# Altium integrated library MCUBOARD.IntLib: 41 symbols
Pins are listed as number, name and electrical type; pins without a type are passive.

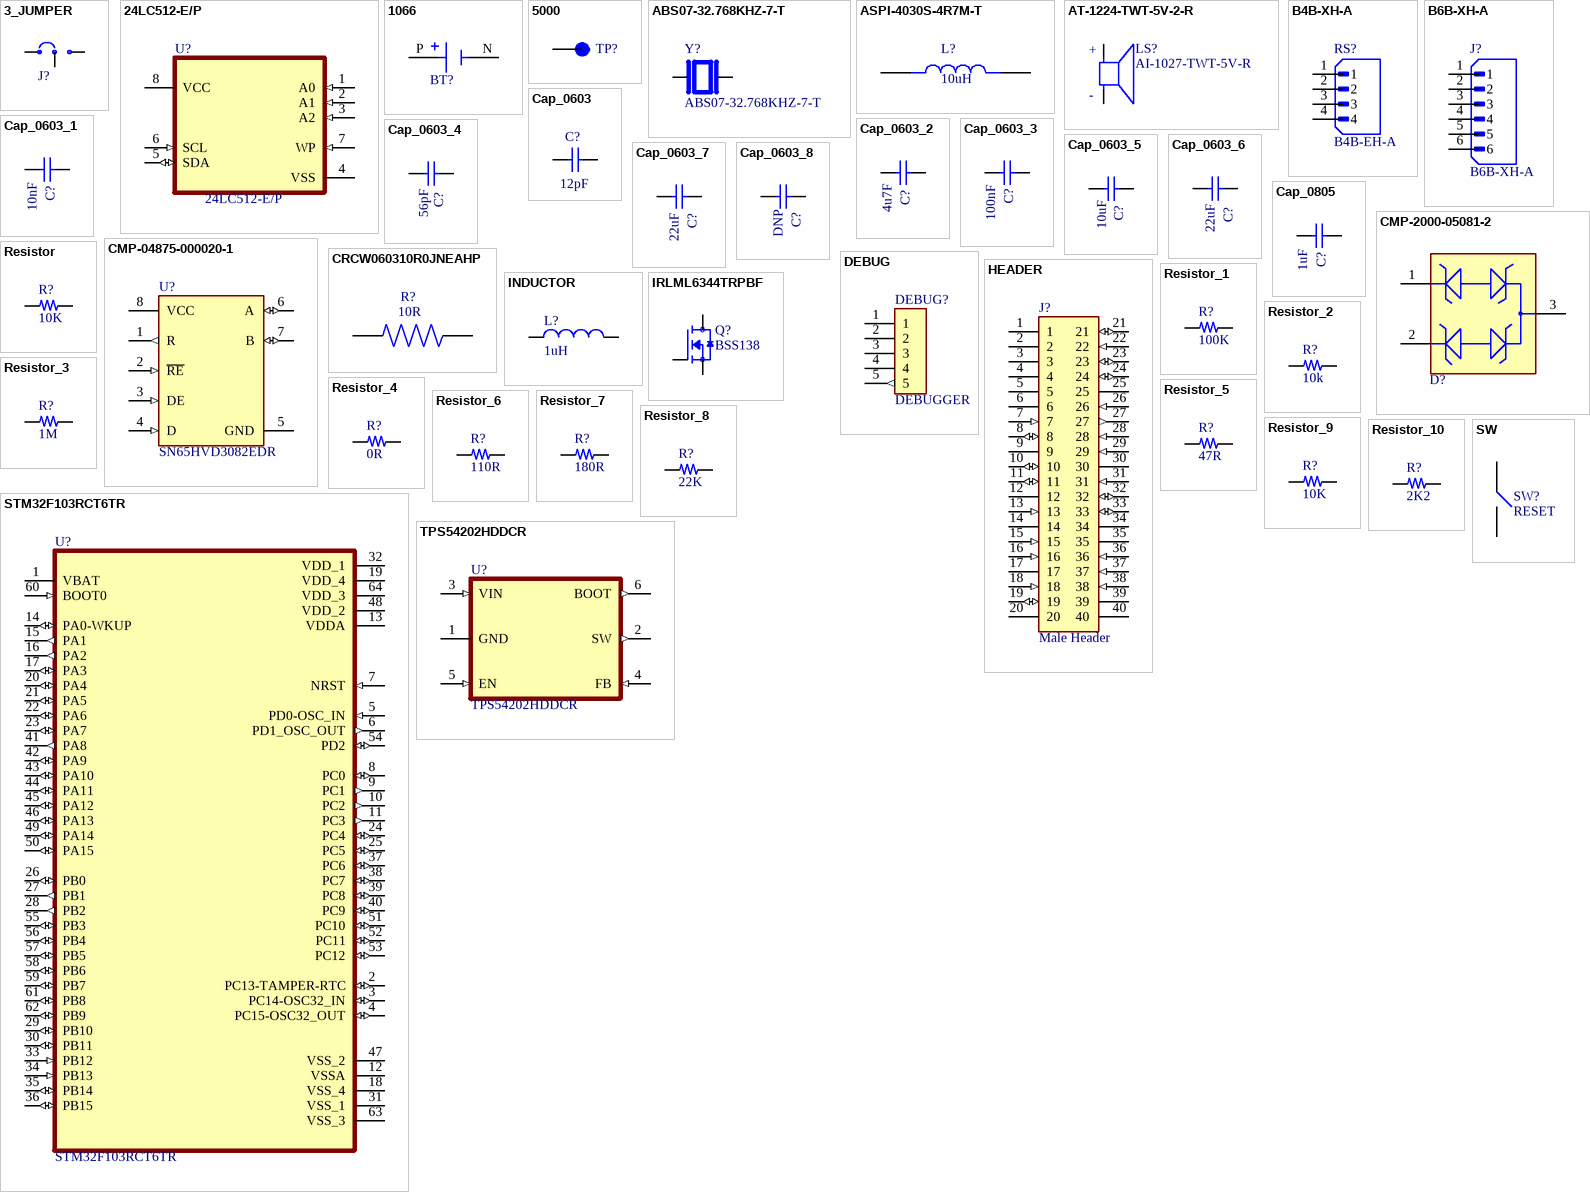
[diagram p0: symbols 3_JUMPER to TPS54202HDDCR]

## 3_JUMPER
designator J?, comment BOOT JUMPER  (value not drawn)
Connector Header Through Hole 3 position 0.100" (2.54mm); Manufacturer: Würth Elektronik; Manufacturer Part Number: 61300311121
footprint WURTH_61300311121
pins: 1, 2, 3

## 24LC512-E/P
designator U?
IC, Socket, 2p54mm Pitch, 7p62mm Width, DIP8; Manufacturer: TE CONNECTIVITY; Manufacturer Part Number: 1-2199298-2; SnapEDA_Link: https://www.snapeda.com/parts/24LC512-E/P/Microchip+Technology/view-part/?ref=snap; Package: DIP-8 Microchip; Value: *; Check_prices: https://www.snapeda.com/parts/24LC512-E/P/Microchip+Technology/view-part/?ref=eda
footprint DIP254P762X432-8
footprint TE_1-2199298-2
pins: 1 A0 (in), 2 A1 (in), 3 A2 (in), 4 VSS, 5 SDA (io), 6 SCL (in), 7 WP (in), 8 VCC (power)

## 1066
designator BT?  (value not drawn)
CR1220 Coin Cell Battery Holder SMD; Manufacturer: KLS Electronics; Manufacturer Part Number: KLS5-CR1220-02
footprint BAT_BH401
footprint BT1 (CR1220 CELL HOLDER)
pins: N NEG, P POS

## 5000
designator TP?  (value not drawn)
Test Point Miniature THM H .300 Nylon 46 Insulated Red PhosBronze/Silver | Keystone Electronics 5000; SnapEDA_Link: https://www.snapeda.com/parts/5000/Keystone/view-part/?ref=snap; Package: Test Point Keystone Electronics; Value: *; MF: Keystone Electronics; MP: 5000; Check_prices: https://www.snapeda.com/parts/5000/Keystone/view-part/?ref=eda
footprint KEYSTONE_5000
pins: TP

## ABS07-32.768KHZ-7-T
designator Y?
32.768 kHz Â±20ppm Crystal 7pF 70 kOhms 2-SMD, No Lead; Manufacturer: Abracon; Value: 32.768 kHz; Manufacturer Part Number: ABS07-32.768KHZ-7-T; Package: SMD-2 Abracon LLC
footprint XTAL_ABS07-32.768KHZ-7-T
pins: 1, 2

## ASPI-4030S-4R7M-T
designator L?, comment 10uH
SRR1280-100M-BOURNS-SRR1280-100M-INDUCTOR, SHIELDED, 10UH, 6.3A, SMD; Manufacturer: BOURNS Inc.; Current Rating (Amps): 6 A; Tolerance: ±20%; DC Resistance (DCR): 19.5mOhm; Manufacturer Part Number: SRR1280-100M; Type: SMD; Value: 10uH
footprint IND_ASPI-4030S-4R7M-T
footprint FP-DEM10050C-MFG
pins: 1, 2

## AT-1224-TWT-5V-2-R
designator LS?, comment AI-1027-TWT-5V-R
Transducer, Audio Indicator, 2.7kHz, 3 VDC to 7 VDC, Continuous, 80 dBA, 30mA, Through Hole; Manufacturer: PUI AUDIO; Package: None; Price: None; Value: *; Manfacturer Part Number: AI-1027-TWT-5V-R; Availability: Unavailable
footprint XDCR_AT-1224-TWT-5V-2-R
pins: N, P
text: +; -

## B4B-XH-A
designator RS?, comment B4B-EH-A
Connector Header Through Hole 4 position 0.098" (2.50mm); Manufacturer: JST Sales America Inc.; Manufacturer Part Number: B4B-EH-A
footprint JST_B4B-EH-A
pins: 1, 2, 3, 4

## B6B-XH-A
designator J?
DNP; SnapEDA_Link: https://www.snapeda.com/parts/B5B-XH-A/JST+Sales+America+Inc./view-part/?ref=snap; Package: None; Value: *; Manufacturer Name: *; Manufacturer Part Number: *; Check_prices: https://www.snapeda.com/parts/B5B-XH-A/JST+Sales+America+Inc./view-part/?ref=eda
footprint TE_640456-6
pins: 1, 2, 3, 4, 5, 6

## Cap_0603
designator C?, comment 12pF
SMD Multilayer Ceramic Capacitor, 12 pF, 50 V, 0402 [1005 Metric], ± 5%, C0G / NP0; Manufacturer Part Number: CL05C120JB5NNNC; Manufacturer: SAMSUNG ELECTRO-MECHANICS; Tolerance: ± 10%; Voltage Rating: 50 V; Type: SMD; Package: 0402; Value: 12pF
footprint CAPC2012X88N
footprint CAPC1005X55N
pins: 1, 2

## Cap_0603_1
designator C?, comment 10nF
10000 pF ±10% 10V Ceramic Capacitor X7R 0201 (0603 Metric); Manufacturer Part Number: GRM033R71A103KA01J; Manufacturer: Murata Electronics; Type: SMD; Package: 0603; Value: 10nF; Tolerance: ±10%; Temperature Coefficient: X7R; Voltage Rating: 10V
footprint CAPC1608X90N
pins: 1, 2

## Cap_0603_2
designator C?, comment 4u7F
4.7 µF ±10% 16V Ceramic Capacitor X7R 0603 (1608 Metric); Manufacturer Part Number: CL10A475KO8NNWC; Manufacturer: SAMSUNG; Type: SMD; Value: 4u7H; Package: 0603; Tolerance: ±10%; Temperature Coefficient: X7R; Voltage Rating: 16V
footprint CAPC1608X90N
pins: 1, 2

## Cap_0603_3
designator C?, comment 100nF
0.1 µF ±10% 16V Ceramic Capacitor X7R 0603 (1608 Metric); Manufacturer Part Number: CC0603KRX7R7BB104; Manufacturer: YAGEO; Type: SMD; Package: 0805; Value: 100nF; Tolerance: ± 10%; Temperature Coefficient: X7R; Voltage Rating: 16 V
footprint RES_ERJU02F5102X
pins: 1, 2

## Cap_0603_4
designator C?, comment 56pF
SMD Multilayer Ceramic Capacitor, 56 pF, 50 V, 0402 [1005 Metric], ± 5%, C0G / NP0; Manufacturer Part Number: CC0402JRNPO9BN560; Manufacturer: YAGEO; Voltage Rating: 50V; Type: SMD; Package: 0402; Value: 56pF; Tolerance: ± 5%; Temperature Coefficient: C0G / NP0
footprint CAP_0402
pins: 1, 2

## Cap_0603_5
designator C?, comment 10uF
CAP CER 10UF 50V X7R 1210; Manufacturer Part Number: CL32B106KBJNNNE; Manufacturer: Samsung Electro-Mechanics; Type: SMD; Tolerance: ±10%; Voltage Rating: 10V; Package: 0603; Value: 10uF; Temperature Coefficient: X7R
footprint CAPC3225X270N
pins: 1, 2

## Cap_0603_6
designator C?, comment 22uF
22 µF ±10% 16V Ceramic Capacitor X5R 0805 (2012 Metric); Manufacturer Part Number: CL21A226KOQNNNE; Manufacturer: Samsung Electro-Mechanics; Type: SMD; Package: 0805; Value: 22uF; Tolerance: ±10%; Temperature Coefficient: X5R; Voltage Rating: 16V
footprint CAPC2012X88N
pins: 1, 2

## Cap_0603_7
designator C?, comment 22uF
DNP; Type: SMD; Tolerance: ±10%; Temperature Coefficient: X5R; Voltage Rating: 16V; Manufacturer Part Number: *; Manufacturer: *; Package: 0805; Value: 22uF
footprint CAPC2012X88N
pins: 1, 2

## Cap_0603_8
designator C?, comment DNP
Type: SMD; Value: 22uF; Tolerance: ±10%; Temperature Coefficient: X5R; Voltage Rating: 16V; Manufacturer Part Number: *; Manufacturer: *; Package: 0805
footprint CAPC2012X88N
pins: 1, 2

## Cap_0805
designator C?, comment 1uF
1 µF ±10% 16V Ceramic Capacitor X7R 0603 (1608 Metric); Manufacturer Part Number: C0603C105K4RACTU; Manufacturer: KEMET; Type: SMD; Package: 0603; Value: 1uF; Tolerance: ± 10%; Temperature Coefficient: X7R; Voltage Rating: 16 V
footprint CAPC1608X90N
pins: 1, 2

## CMP-2000-05081-2
designator D?, comment CDSOT23-SM712  (value not drawn)
TVS DIODE 7V/12V 14V/26V SOT23-3; Manufacturer: Bourns Inc.; Peak Pulse Current: 17A; Standoff Height: 0.05mm; Breakdown Voltage: 7.5V; Direction: Bidirectional; Clamping Voltage: 26V; Value: 75pF; Number Of Channels: 2; Reverse Standoff Voltage: 12V; Peak Pulse Power: 400W; Temperature Range Low: -55°C; Mouser Description: Transient Voltage Suppressor, TVS, CDSOT23 Series, Unidirectional, 12 V, SOT-23, 3, 13.3 V; Device Class L3: unset; Package: SOT23; Height: 1.17mm; RoHS: TRUE; Octopart: https://octopart.com/cdsot23-sm712-bourns-7576327; Category: Diode; Ipc Land Pattern Name: SOT95P229X103-3; ComponentLink2URL: https://www.bourns.com/docs/Product-Datasheets/CDSOT23-SM712.pdf; Temperature Range High: +150°C; ComponentLink2Description: Datasheet; Digikey Description: TVS DIODE 7V/12V 14V/26V SOT23-3; Manufacturer Part Number: CDSOT23-SM712; Temperature: -55°C to +150°C; Device Class L2: TVS Diodes; Lead Free: Yes; Device Class L1: Circuit Protection; Automotive: No; Capacitance: 75pF
footprint FP-SOT23-IPC_A
pins: 1, 2, 3

## CMP-04875-000020-1
designator U?, comment SN65HVD3082EDR
IC TRANSCEIVER HALF 1/1 8SOIC; Manufacturer: Texas Instruments; Data Rate: 0.2Mbits/s; Standoff Height: 0.11mm; Max Junction Temp: +130°C; Number Of Transmitters: 1; Nominal Supply Current: 300-425uA; Min Supply Voltage: 4.5V; Simplex Duplex: Half Duplex; Max Supply Voltage: 5.5V; Interface: RS-485,RS-422; Lead Free: Yes; Temperature Range High: +85°C; Ambient Temperature Range High: +105°C; Octopart: https://octopart.com/sn65hvd3082edr-texas+instruments-712058; Automotive: No; Ambient Temperature Range Low: -40°C; RoHS: TRUE; Device Class L2: Interface ICs; Mouser Description: RS-485 Interface IC Low-Power RS-485 Transceiver; Package: D0008A; Digikey Description: IC TRANSCEIVER HALF 1/1 8SOIC; Device Class L1: Integrated Circuits (ICs); Height: 1.75mm; ComponentLink2Description: Datasheet; Category: IC; Temperature Range Low: -40°C; Number Of Receivers: 1; Device Class L3: RS-232 / RS-422 / RS-485 Interface ICs; Ipc Land Pattern Name: SOIC127P600X175-8; ComponentLink2URL: http://www.ti.com/lit/ds/symlink/sn65hvd3082e.pdf; Temperature: -40°C to +85°C; Manufacturer Part Number: SN65HVD3082EDR
footprint FP-D0008A-IPC_A
pins: 1 R (out), 2 ~{RE} (in), 3 DE (in), 4 D (in), 5 GND (power), 6 A (io), 7 B (io), 8 VCC (power)

## CRCW060310R0JNEAHP
designator R?, comment 10R
RC0402FR-0710RL-YAGEO-Res Thick Film 0402 10 Ohm 1% 0.063W(1/16W) ±200ppm/°C Pad SMD T/R; Manufacturer: Yageo; Power Rating: 100mW; Type: SMD; Package: 0402; Value: 10R; Manufacturer Part Number: RC0402FR-0710RL; Tolerance: ±1%; Temperature Coefficient: ±200ppm/°C
footprint RES_ERJU02F5102X
pins: 1, 2

## DEBUG
designator DEBUG?, comment DEBUGGER
PCB Receptacle, Board-to-Board, 2.54 mm, 1 Rows, 5 Contacts, Through Hole Mount, WR-PHD; Manufacturer: WURTH ELEKTRONIK; Manufacturer Part Number: 61300511821; Geometry.Height: 2.881mm; Mouser Part Number: 737-PH1RB-02-UA; Mouser Price/Stock: https://www.mouser.co.uk/ProductDetail/Adam-Tech/PH1RB-02-UA?qs=HoCaDK9Nz5fILNAxadVeKQ%3D%3D; Datasheet Link: https://app.adam-tech.com/products/download/data_sheet/201281/ph1rb-xx-ua-data-sheet.pdf
footprint CONN5_1LFBN-RC_SUL
pins: 1, 2, 3, 4, 5 (out)

## HEADER
designator J?, comment Male Header
10129378 Amphenol -2×20 Pin 2.54mm Pin Header V/T Type; Manufacturer Part Number: 10129371; Manufacturer: Amphenol
footprint FP-N2540-6002RB-MFG
footprint SMTC-TSW-120-08-X-D-RA (.025 SQ Post Terminal Strip Assembly, 2x20 Pins, Right Angle, 2.54mm Pitch, Male)
footprint 61304021121
pins: 1, 2, 3, 4, 5, 6, 7 (in), 8 (io), 9 (power), 10 (io), 11 (io), 12, 13 (in), 14 (power), 15 (in), 16 (in), 17 (power), 18 (in), 19 (io), 20 (power), 21 (io), 22 (in), 23 (io), 24 (io), 25 (power), 26 (in), 27 (out), 28 (in), 29 (in), 30 (power), 31 (in), 32 (io), 33 (io), 34 (power), 35, 36 (in), 37 (in), 38 (in), 39 (power), 40

## INDUCTOR
designator L?, comment 1uH
POWER INDUCTOR, SMD, 1UH, 0.8A; Manufacturer Part Number: LSBHB1608KKT1R0M; Manufacturer: TAIYO YUDEN; Tolerance: ±20%; DC Resistance (DCR): 300m ohm; Rated Current: 700mA; Package: 0603; Type: SMD; Value: 1uH
footprint INDC2012X145N
footprint CAPC1608X90N
pins: 1, 2

## IRLML6344TRPBF
designator Q?, comment BSS138
MVGSF1N02LT1G-ONSEMI-Power MOSFET, N Channel, 20 V, 750 mA, 0.075 ohm, SOT-23, Surface Mount; Manufacturer: onsemi; Rds ON: 90mOhm; Id: 750mA; Manufacturer Part Number: BSS138
footprint TRANS_IRLML6344TRPBF
pins: 1 G, 2 S, 3 D

## Resistor
designator R?, comment 10K
10 kOhms ±1% 0.063W, 1/16W Chip Resistor 0402 (1005 Metric) Moisture Resistant Thick Film; Manufacturer: YAGEO; Manufacturer Part Number: RC0402FR-0710KL; Temperature Coefficient: ±100ppm/°C; Power Rating: 0.063W(1/16W); Value: 10K; Tolerance: ±1 %; Type: SMD; Package: 0402
footprint RES_ERJU02F5102X
pins: 1, 2

## Resistor_1
designator R?, comment 100K
100 kOhms ±1% 0.063W, 1/16W Chip Resistor 0402 (1005 Metric) Moisture Resistant Thick Film; Manufacturer: YAGEO; Manufacturer Part Number: RC0402FR-07100KL; Temperature Coefficient: ±100ppm/°C; Value: 100K; Tolerance: ±1 %; Type: SMD; Package: 0402; Power Rating: 0.063W, 1/16W
footprint RES_ERJU02F5102X
pins: 1, 2

## Resistor_2
designator R?, comment 10k
10 kOhms ±1% 0.063W, 1/16W Chip Resistor 0402 (1005 Metric) Moisture Resistant Thick Film; Manufacturer: YAGEO; Manufacturer Part Number: RC0402FR-0710KL; Value: 100K; Temperature Coefficient: ±100ppm/°C; Tolerance: ±1 %; Type: SMD; Package: 0402; Power Rating: 0.063W, 1/16W
footprint RES_ERJU02F5102X
pins: 1, 2

## Resistor_3
designator R?, comment 1M
RC0402FR-071ML-YAGEO-Res Thick Film 0402 1M Ohm 1% 0.063W(1/16W) ±100ppm/°C Pad SMD T/R; Manufacturer: YAGEO; Power Rating: 0.063W, 1/16W; Value: 1M; Manufacturer Part Number: RC0402FR-071ML; Tolerance: ±1 %; Temperature Coefficient: ±100ppm/°C; Type: SMD; Package: 0402
footprint RES_ERJU02F5102X
pins: 1, 2

## Resistor_4
designator R?, comment 0R
0 Ohms ±1% 0.063W, 1/16W Chip Resistor 0402 (1005 Metric) Moisture Resistant Thick Film; Manufacturer: YAGEO; Manufacturer Part Number: RC0402FR-070RL; Temperature Coefficient: ±100ppm/℃; Power Rating: 62.5mW; Value: 0R; Tolerance: ±1 %; Type: SMD; Package: 0402
footprint RES_ERJU02F5102X
pins: 1, 2

## Resistor_5
designator R?, comment 47R
RC0402FR-0747RL-YAGEO-Res Thick Film 0402 47 Ohm 1% 0.063W(1/16W) ±100ppm/°C Pad SMD T/R; Manufacturer: YAGEO; Power Rating: 0.063W, 1/16W; Value: 47R; Manufacturer Part Number: RC0402FR-0747RL; Tolerance: ±1 %; Temperature Coefficient: ±100ppm/°C; Type: SMD; Package: 0402
footprint RES_ERJU02F5102X
pins: 1, 2

## Resistor_6
designator R?, comment 110R
RC0603FR-07110RL-YAGEO-100mW Thick Film Resistors 75V ±100ppm/℃ ±1% 110Ω 0603 Chip Resistor – Surface Mount ROHS; Manufacturer: YAGEO; Power Rating: 100mW; Value: 110R; Manufacturer Part Number: RC0603FR-07110RL; Tolerance: ±1 %; Temperature Coefficient: ±100ppm/℃; Type: SMD; Package: 0603
footprint RESC1608X55N
pins: 1, 2

## Resistor_7
designator R?, comment 180R
RC0402FR-07180RL-Yageo-SMD Chip Resistor, 180 ohm, ± 1%, 62.5 mW, 0402 [1005 Metric], Thick Film, General Purpose; Manufacturer: YAGEO; Temperature Coefficient: ±100ppm/°C; Power Rating: 0.063W(1/16W); Value: 180R; Manufacturer Part Number: RC0402FR-07180RL; Tolerance: ±1 %; Type: SMD; Package: 0402
footprint RES_ERJU02F5102X
pins: 1, 2

## Resistor_8
designator R?, comment 22K
22 kOhms ±1% 0.063W, 1/16W Chip Resistor 0402 (1005 Metric) Moisture Resistant Thick Film; Manufacturer: YAGEO; Manufacturer Part Number: RC0402FR-0722KL; Temperature Coefficient: ±100ppm/°C; Power Rating: 0.063W(1/16W); Value: 22K; Tolerance: ±1 %; Type: SMD; Package: 0402
footprint RES_ERJU02F5102X
pins: 1, 2

## Resistor_9
designator R?, comment 10K
10 kOhms ±1% 0.063W, 1/16W Chip Resistor 0402 (1005 Metric) Moisture Resistant Thick Film; Manufacturer: YAGEO; Manufacturer Part Number: RC0402FR-0710KL; Value: 100R; Temperature Coefficient: ±100ppm/℃; Power Rating: 62.5mW; Tolerance: ±1 %; Type: SMD; Package: 0402
footprint RES_ERJU02F5102X
pins: 1, 2

## Resistor_10
designator R?, comment 2K2
RC0402FR-072K2L, Yageo, SMD Chip Resistor, 2.2 kohm, ± 1%, 0402 [1005 Metric], Thick Film; Temperature Coefficient: ±100ppm/°C; Power Rating: 0.063W(1/16W); Value: 2K2; Manufacturer: YAGEO; Manufacturer Part Number: RC0402FR-072K2L; Tolerance: ±1 %; Type: SMD; Package: 0402
footprint RES_ERJU02F5102X
pins: 1, 2

## STM32F103RCT6TR
designator U?
ARM Cortex-M3 STM32F1 Microcontroller IC 32-Bit Single-Core 72MHz 256KB (256K x 8) FLASH 64-LQFP (10x10); Manufacturer: STMicroelectronics; Package: LQFP-64 STMicroelectronics; Manufacturer Part Number: STM32F103RCT6TR
footprint QFP50P1200X1200X160-64N
pins: 1 VBAT (power), 2 PC13-TAMPER-RTC (io), 3 PC14-OSC32_IN (io), 4 PC15-OSC32_OUT (io), 5 PD0-OSC_IN (in), 6 PD1_OSC_OUT (out), 7 NRST (in), 8 PC0 (io), 9 PC1 (out), 10 PC2 (out), 11 PC3 (out), 12 VSSA (power), 13 VDDA (power), 14 PA0-WKUP (io), 15 PA1 (out), 16 PA2 (out), 17 PA3 (io), 18 VSS_4 (power), 19 VDD_4 (power), 20 PA4 (io), 21 PA5 (io), 22 PA6 (io), 23 PA7 (io), 24 PC4 (io), 25 PC5 (io), 26 PB0 (io), 27 PB1 (out), 28 PB2 (out), 29 PB10 (io), 30 PB11 (io), 31 VSS_1 (power), 32 VDD_1 (power), 33 PB12 (in), 34 PB13 (in), 35 PB14 (io), 36 PB15 (io), 37 PC6 (io), 38 PC7 (io), 39 PC8 (io), 40 PC9 (io), 41 PA8 (out), 42 PA9 (io), 43 PA10 (io), 44 PA11 (io), 45 PA12 (io), 46 PA13 (io), 47 VSS_2 (power), 48 VDD_2 (power), 49 PA14 (io), 50 PA15 (io), 51 PC10 (io), 52 PC11 (io), 53 PC12 (io), 54 PD2 (io), 55 PB3 (io), 56 PB4 (io), 57 PB5 (io), 58 PB6 (io), 59 PB7 (io), 60 BOOT0 (in), 61 PB8 (io), 62 PB9 (io), 63 VSS_3 (power), 64 VDD_3 (power)

## SW
designator SW?, comment RESET
Tact Switch-TSB008A2518B-2 Pin 6 x 3.5mm; Manufacturer: BZCN; Manufacturer Part Number: TSB008A2518B
footprint 434121043836
pins: 1, 2

## TPS54202HDDCR
designator U?
4.5V to 28V Input, 2A Output, Synchronous Step-Down Voltage Converter; Manufacturer: Texas Instruments; Package: SOT-23-THN-6 Texas Instruments; Manufacturer Part Number: TPS54202HDDCR
footprint SOT95P280X110-6N
pins: 1 GND (power), 2 SW (out), 3 VIN (in), 4 FB (in), 5 EN (in), 6 BOOT (out)

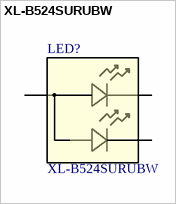
[diagram p1: symbol XL-B524SURUBW]

## XL-B524SURUBW
designator LED?
XL-B524SURUBW-XINGLIGHT-40mA -25℃~+85℃ Red,Blue 50° 5mm round lamp head Plugin,D=5mm LED Indication – Discrete ROHS; Manufacturer: XINGLIGHT; Manufacturer Part Number: XL-B524SURUBW
footprint WP59EGW_KNB
pins: 1, 2, 3